# Altium footprint library Mezeq_Wireless_Modules.PcbLib: 3 footprints
Each footprint in its own frame and in the unit in brackets; x right, y up, seen from the top. Pads: shape width x height; smd on the part's side, far side on the other; paste and mask are expansions set on the pad; w line width, h text height; cw(c..) or ccw(c..) is an arc to the next point about the centre after c.
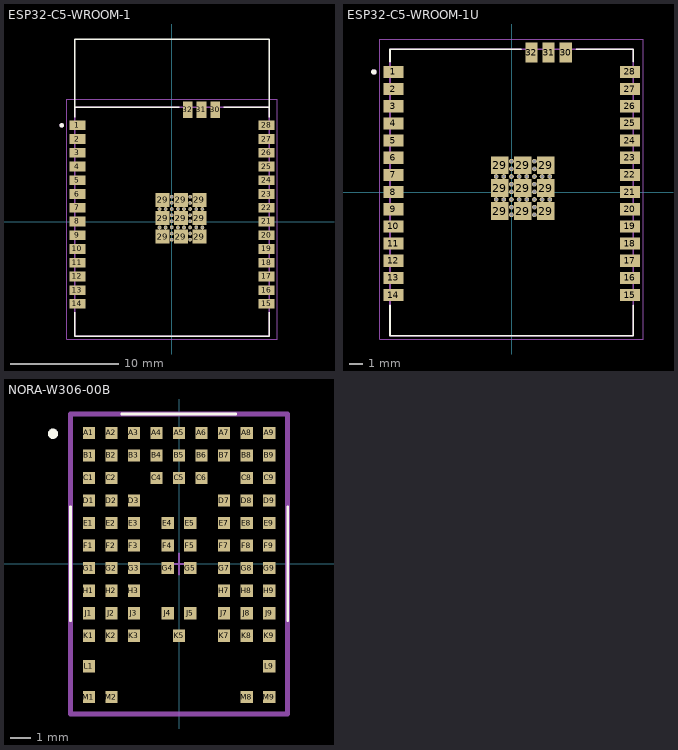
[diagram p0: the footprints below, top view; thin cyan lines are the x and y axes]

## ESP32-C5-WROOM-1 [mm] "Footprint compatible to 1U version"
height 3.45
pads (68):
  rect 1.5x0.9 smd: 1(-8.75,8.91) 2(-8.75,7.64) 3(-8.75,6.37) 4(-8.75,5.1) 5(-8.75,3.83) 6(-8.75,2.56) 7(-8.75,1.29) 8(-8.75,0.02) 9(-8.75,-1.25) 10(-8.75,-2.52) 11(-8.75,-3.79) 12(-8.75,-5.06) 13(-8.75,-6.33) 14(-8.75,-7.6) 15(8.75,-7.6) 16(8.75,-6.33) 17(8.75,-5.06) 18(8.75,-3.79) 19(8.75,-2.52) 20(8.75,-1.25) 21(8.75,0.02) 22(8.75,1.29) 23(8.75,2.56) 24(8.75,3.83) 25(8.75,5.1) 26(8.75,6.37) 27(8.75,7.64) 28(8.75,8.91)
  round 0.35 hole 0.2 mask+0: 29(-1.152,-0.528) 29(-1.152,1.172) 29(-0.586,-0.528) 29(-0.586,1.172) 29(-0.02,-1.66) 29(-0.02,-1.094) 29(-0.02,-0.528) 29(-0.02,0.039) 29(-0.02,0.605) 29(-0.02,1.172) 29(-0.02,1.738) 29(-0.02,2.304) 29(0.547,-0.528) 29(0.547,1.172) 29(1.113,-0.528) 29(1.113,1.172) 29(1.68,-1.66) 29(1.68,-1.094) 29(1.68,-0.528) 29(1.68,0.039) 29(1.68,0.605) 29(1.68,1.172) 29(1.68,1.738) 29(1.68,2.304) 29(2.246,-0.528) 29(2.246,1.172) 29(2.812,-0.528) 29(2.812,1.172)
  rect 1.3x1.3 smd: 29(-0.87,-1.378) 29(-0.87,0.322) 29(-0.87,2.022) 29(0.83,-1.378) 29(0.83,0.322) 29(0.83,2.022) 29(2.53,-1.378) 29(2.53,0.322) 29(2.53,2.022)
  rect 0.9x1.5 smd: 30(4,10.35) 31(2.73,10.35) 32(1.46,10.35)
Top Overlay:
  circle w0.2: c-10.2,8.91 r0.1
  lines w0.127: -9,-8.37 -9,-10.6 9,-10.6 9,-8.37 ; -9,9.68 -9,10.6 ; 0.69,10.6 -9,10.6 ; 4.77,10.6 9,10.6 ; 9,9.68 9,10.6 ; -9,10.6 -9,16.9 9,16.9 9,10.6
Top Assembly:
  circle w0.2: c-10.2,8.91 r0.1
  lines w0.127: -9,-10.6 -9,10.6 9,10.6 9,-10.6 -9,-10.6
  text ".Designator" at -12.496,-0.833 h2.5
Top Courtyard:
  lines w0.05: -9.75,-10.85 9.75,-10.85 9.75,11.35 -9.75,11.35 -9.75,-10.85
3D body "ESP32-C5-WROOM-1_V1_3_20250619.STEP": height 3.33, standoff -0.01, extent -9,-10.6 9,16.9

## ESP32-C5-WROOM-1U [mm]
height 3.45
pads (68):
  rect 1.5x0.9 smd: 1(-8.75,8.91) 2(-8.75,7.64) 3(-8.75,6.37) 4(-8.75,5.1) 5(-8.75,3.83) 6(-8.75,2.56) 7(-8.75,1.29) 8(-8.75,0.02) 9(-8.75,-1.25) 10(-8.75,-2.52) 11(-8.75,-3.79) 12(-8.75,-5.06) 13(-8.75,-6.33) 14(-8.75,-7.6) 15(8.75,-7.6) 16(8.75,-6.33) 17(8.75,-5.06) 18(8.75,-3.79) 19(8.75,-2.52) 20(8.75,-1.25) 21(8.75,0.02) 22(8.75,1.29) 23(8.75,2.56) 24(8.75,3.83) 25(8.75,5.1) 26(8.75,6.37) 27(8.75,7.64) 28(8.75,8.91)
  rect 1.3x1.3 smd: 29(-0.87,-1.378) 29(-0.87,0.322) 29(-0.87,2.022) 29(0.83,-1.378) 29(0.83,0.322) 29(0.83,2.022) 29(2.53,-1.378) 29(2.53,0.322) 29(2.53,2.022)
  round 0.35 hole 0.25 mask+0: 29_10(-0.02,2.304) 29_11(-0.02,1.738) 29_12(1.68,2.304) 29_13(1.68,1.738) 29_14(-1.152,1.172) 29_15(-0.586,1.172) 29_16(-0.02,1.172) 29_17(0.547,1.172) 29_18(1.113,1.172) 29_19(1.68,1.172) 29_20(2.246,1.172) 29_21(2.812,1.172) 29_22(-0.02,0.605) 29_23(-0.02,0.039) 29_24(1.68,0.605) 29_25(1.68,0.039) 29_26(-1.152,-0.528) 29_27(-0.586,-0.528) 29_28(-0.02,-0.528) 29_29(0.547,-0.528) 29_30(1.113,-0.528) 29_31(1.68,-0.528) 29_32(2.246,-0.528) 29_33(2.812,-0.528) 29_34(-0.02,-1.094) 29_35(-0.02,-1.66) 29_36(1.68,-1.094) 29_37(1.68,-1.66)
  rect 0.9x1.5 smd: 30(4,10.35) 31(2.73,10.35) 32(1.46,10.35)
Top Overlay:
  circle w0.2: c-10.2,8.91 r0.1
  lines w0.127: -9,-8.37 -9,-10.6 9,-10.6 9,-8.37 ; -9,9.68 -9,10.6 0.69,10.6 ; 4.77,10.6 9,10.6 9,9.68
Top Assembly:
  circle w0.2: c-10.2,8.91 r0.1
  lines w0.127: -9,-10.6 9,-10.6 9,10.6 -9,10.6 -9,-10.6
  text ".Designator" at -12.496,-0.833 h2.5
Top Courtyard:
  lines w0.05: -9.75,-10.85 -9.75,11.35 9.75,11.35 9.75,-10.85 -9.75,-10.85
3D body "step_temp.STEP": height 3.45, standoff 0, extent -9,-10.6 9,10.6

## NORA-W306-00B [mm]
pads (82):
  rect 0.6x0.6 smd: A1(-4.4,6.4) A2(-3.3,6.4) A3(-2.2,6.4) A4(-1.1,6.4) A5(0,6.4) A6(1.1,6.4) A7(2.2,6.4) A8(3.3,6.4) A9(4.4,6.4) B1(-4.4,5.3) B2(-3.3,5.3) B3(-2.2,5.3) B4(-1.1,5.3) B5(0,5.3) B6(1.1,5.3) B7(2.2,5.3) B8(3.3,5.3) B9(4.4,5.3) C1(-4.4,4.2) C2(-3.3,4.2) C4(-1.1,4.2) C5(0,4.2) C6(1.1,4.2) C8(3.3,4.2) C9(4.4,4.2) D1(-4.4,3.1) D2(-3.3,3.1) D3(-2.2,3.1) D7(2.2,3.1) D8(3.3,3.1) D9(4.4,3.1) E1(-4.4,2) E2(-3.3,2) E3(-2.2,2) E4(-0.55,2) E5(0.55,2) E7(2.2,2) E8(3.3,2) E9(4.4,2) F1(-4.4,0.9) F2(-3.3,0.9) F3(-2.2,0.9) F4(-0.55,0.9) F5(0.55,0.9) F7(2.2,0.9) F8(3.3,0.9) F9(4.4,0.9) G1(-4.4,-0.2) G2(-3.3,-0.2) G3(-2.2,-0.2) G4(-0.55,-0.2) G5(0.55,-0.2) G7(2.2,-0.2) G8(3.3,-0.2) G9(4.4,-0.2) H1(-4.4,-1.3) H2(-3.3,-1.3) H3(-2.2,-1.3) H7(2.2,-1.3) H8(3.3,-1.3) H9(4.4,-1.3) J1(-4.4,-2.4) J2(-3.3,-2.4) J3(-2.2,-2.4) J4(-0.55,-2.4) J5(0.55,-2.4) J7(2.2,-2.4) J8(3.3,-2.4) J9(4.4,-2.4) K1(-4.4,-3.5) K2(-3.3,-3.5) K3(-2.2,-3.5) K5(0,-3.5) K7(2.2,-3.5) K8(3.3,-3.5) K9(4.4,-3.5) L1(-4.4,-5) L9(4.4,-5) M1(-4.4,-6.5) M2(-3.3,-6.5) M8(3.3,-6.5) M9(4.4,-6.5)
Top Overlay:
  circle w0.25: c-6.156,6.361 r0.125
  lines w0.127: -5.3,-2.763 -5.3,2.8 ; -2.794,7.325 2.769,7.325 ; 5.3,-2.763 5.3,2.8
Top Assembly:
  circle w0.25: c-4.4,6.4 r0.125
  lines w0.127: -5.3,-7.325 -5.3,7.325 5.3,7.325 5.3,-7.325 -5.3,-7.325
  text ".Designator" at -9.997,-0.666 h2
Top Courtyard:
  lines w0.254: -5.3,-7.325 5.3,-7.325 5.3,7.325 -5.3,7.325 -5.3,-7.325
Top Component Center:
  lines w0.1: -0.5,0 0.5,0 ; 0,-0.5 0,0.5
3D body "NORA-W106-00B.STEP": height 1.9, standoff 0, extent -5.2,-7.15 5.2,7.15